# Altium schematic symbol library DOME_Schlib.SchLib: 8 symbols
Pins are listed as number, name and electrical type; pins without a type are passive.

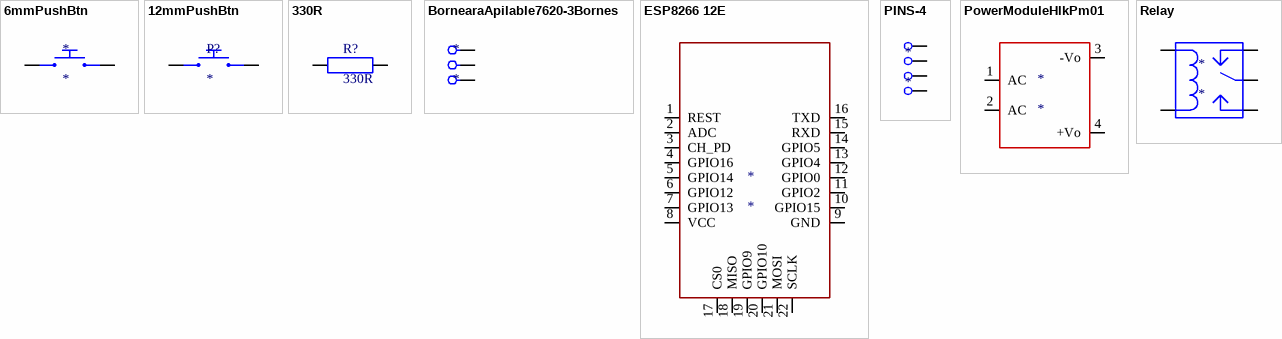
[diagram p0: symbols 6mmPushBtn to Relay]

## 6mmPushBtn
designator *
footprint 6mmPushBtn
pins: 1, 2 36

## 12mmPushBtn
designator P?
footprint 12mmPushBtn
pins: 1, 2 36

## 330R
designator R?
footprint 330R_P8mm_0.25w
pins: 1, 2

## BornearaApilable7620-3Bornes
designator *
footprint BornearaApilable7620-3Bornes
pins: 1 39, 2 38, 3 40

## ESP8266 12E
designator *
footprint ESP8266 12E
pins: 1 REST, 2 ADC, 3 CH_PD, 4 GPIO16, 5 GPIO14, 6 GPIO12, 7 GPIO13, 8 VCC, 9 GND, 10 GPIO15, 11 GPIO2, 12 GPIO0, 13 GPIO4, 14 GPIO5, 15 RXD, 16 TXD, 17 CS0, 18 MISO, 19 GPIO9, 20 GPIO10, 21 MOSI, 22 SCLK

## PINS-4
designator *
footprint PINS-4
pins: 1 42, 2 41, 3 43, 4 44

## PowerModuleHlkPm01
designator *
footprint PowerModuleHlkPm01
pins: 1 AC, 2 AC, 3 -Vo, 4 +Vo

## Relay
designator *
footprint Relay
pins: 2 3, 3 7, 4 5, 5 4, 16 6